# EAGLE library part TPS6302X (library balto)
TPS6302x High Efficiency Single Inductor Buck-Boost Converter With 4-A Switches
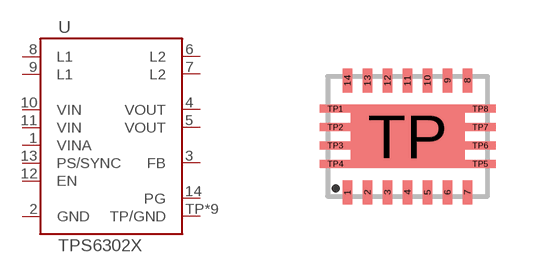
[diagram p53: symbol with the pads of VSON14; footprint VSON14]

Designator prefix U

## TPS6302X  [VSON14]
1  VINA
2  GND
3  FB
4  VOUT
5  VOUT
6  L2
7  L2
8  L1
9  L1
10  VIN
11  VIN
12  EN
13  PS/SYNC
14  PG
TP  TP/GND
TP1  TP/GND
TP2  TP/GND
TP3  TP/GND
TP4  TP/GND
TP5  TP/GND
TP6  TP/GND
TP7  TP/GND
TP8  TP/GND

## Footprint VSON14 (pad centres in mm)
VSON14
smd 0.24 x 0.6: 1 -1.5,-1.4; 2 -1,-1.4; 3 -0.5,-1.4; 4 0,-1.4; 5 0.5,-1.4; 6 1,-1.4; 7 1.5,-1.4; 8 1.5,1.4; 9 1,1.4; 10 0.5,1.4; 11 0,1.4; 12 -0.5,1.4; 13 -1,1.4; 14 -1.5,1.4
smd 2.85 x 1.58: TP 0,0
smd 0.775 x 0.2: TP1 -1.812,0.69; TP2 -1.812,0.23; TP3 -1.812,-0.23; TP4 -1.812,-0.69; TP5 1.812,-0.69; TP6 1.812,-0.23; TP7 1.812,0.23; TP8 1.812,0.69